# Altium footprint library NEW_PCB_2022-01-22.PcbLib: 1 footprints
Each footprint in its own frame and in the unit in brackets; x right, y up, seen from the top. Pads: shape width x height; smd on the part's side, far side on the other; paste and mask are expansions set on the pad; w line width, h text height; cw(c..) or ccw(c..) is an arc to the next point about the centre after c.
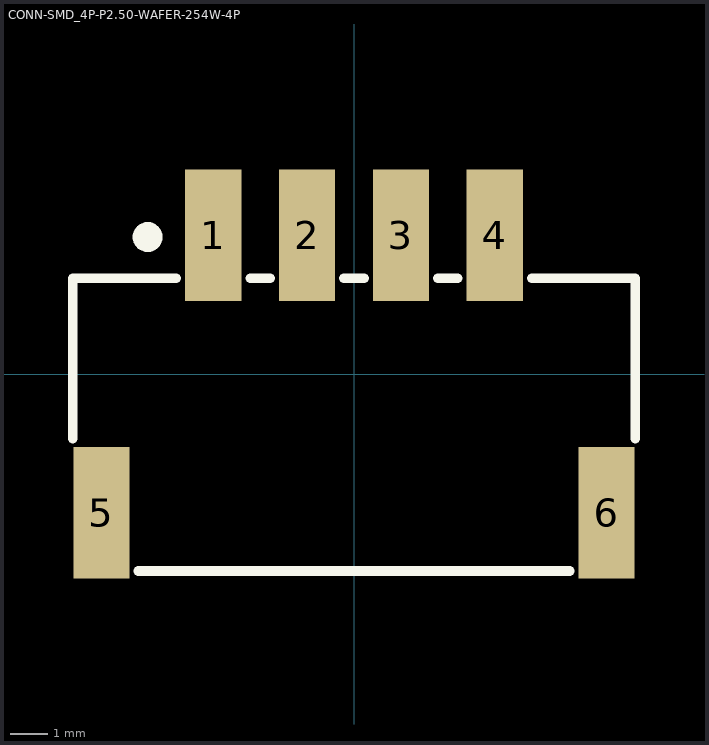
[diagram p0: the footprint, top view; thin cyan lines are the x and y axes]

## CONN-SMD_4P-P2.50-WAFER-254W-4P [mm]
pads (6):
  rect 1.5x3.5 smd: 1(-3.75,3.7) 2(-1.25,3.7) 3(1.25,3.7) 4(3.75,3.7) 5(-6.73,-3.7) 6(6.73,-3.7)
Top Overlay:
  circle w0.4: c-5.5,3.65 r0.2
  lines w0.254: -7.5,-1.72 -7.5,2.55 -4.731,2.55 ; -5.749,-5.25 5.749,-5.25 ; -2.769,2.55 -2.231,2.55 ; -0.269,2.55 0.269,2.55 ; 2.231,2.55 2.769,2.55 ; 4.731,2.55 7.5,2.55 7.5,-1.72
Mechanical 15:
  circle w0.4: c-3.7,3.3 r0.2